# EAGLE library part AKL59-11 (library con-ria-59)
RIA Anschlussklemme Typ 59, Raster 3,5 mm, Polzahl 11
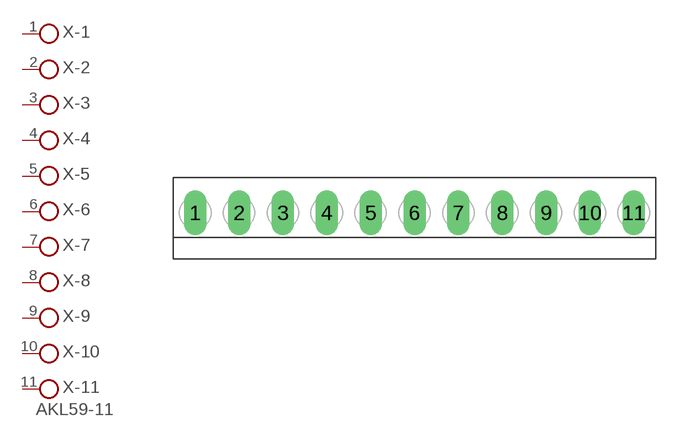
[diagram p5: symbol with the pads of 11POL35; footprint 11POL35]

Designator prefix X; gates -1=PIN -2=PIN -3=PIN -4=PIN -5=PIN -6=PIN -7=PIN -8=PIN -9=PIN -10=PIN -11=PINV

## AKL59-11  [11POL35]
1  -1:1  pas
2  -2:1  pas
3  -3:1  pas
4  -4:1  pas
5  -5:1  pas
6  -6:1  pas
7  -7:1  pas
8  -8:1  pas
9  -9:1  pas
10  -10:1  pas
11  -11:1  pas

## Footprint 11POL35 (pad centres in mm)
Raster 3,5 mm, Polzahl 11
drill 1.2 long: 1 -17.5,0; 2 -14,0; 3 -10.5,0; 4 -7,0; 5 -3.5,0; 6 0,0; 7 3.5,0; 8 7,0; 9 10.5,0; 10 14,0; 11 17.5,0